# Altium footprint library 734120110.PcbLib: 1 footprints
Each footprint in its own frame and in the unit in brackets; x right, y up, seen from the top. Pads: shape width x height; smd on the part's side, far side on the other; paste and mask are expansions set on the pad; w line width, h text height; cw(c..) or ccw(c..) is an arc to the next point about the centre after c.
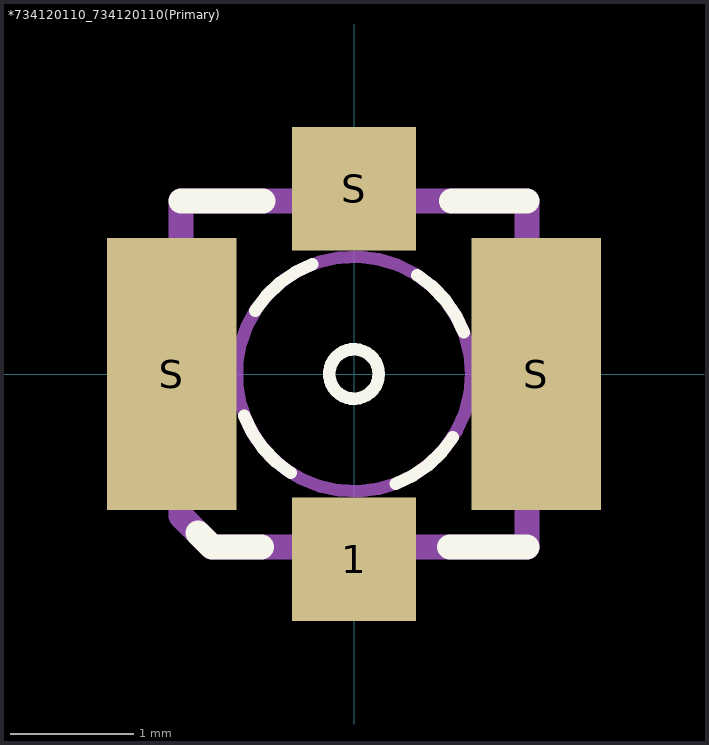
[diagram p0: the footprint, top view; thin cyan lines are the x and y axes]

## *734120110_734120110(Primary) [mm]
pads (4):
  rect 1x1 smd: 1(0,-1.5) S(0,1.5)
  rect 1.05x2.2 smd: S(-1.475,0) S(1.475,0)
Top Overlay:
  circle w0.102: c0,0 r0.2
  lines w0.102: -0.888,-0.336 ccw(c-0.026,-0.023) -0.512,-0.8 ; -0.8,0.512 cw(c-0.023,0.026) -0.336,0.888 ; 0.336,-0.888 ccw(c0.023,-0.026) 0.8,-0.512 ; 0.512,0.8 cw(c0.026,0.023) 0.888,0.336
  lines w0.203: -1.4,1.4 -0.737,1.4 ; -1.262,-1.288 -1.15,-1.4 -0.75,-1.4 ; 0.775,-1.4 1.4,-1.4 ; 0.787,1.4 1.4,1.4
Mechanical 4:
  circle w0.102: c0,0 r0.95
  circle w0.102: c0,0 r0.95
  region: -0.3,-1.5 0.3,-1.5 0.3,-1.8 -0.3,-1.8
  region: -0.3,1.8 0.3,1.8 0.3,1.5 -0.3,1.5
  region: 1.35,0.9 1.8,0.9 1.8,-0.9 1.35,-0.9
  region: -1.8,0.9 -1.35,0.9 -1.35,-0.9 -1.8,-0.9
  region: -0.3,-1.5 0.3,-1.5 0.3,-1.8 -0.3,-1.8
  region: -0.3,1.8 0.3,1.8 0.3,1.5 -0.3,1.5
  region: 1.35,0.9 1.8,0.9 1.8,-0.9 1.35,-0.9
  region: -1.8,0.9 -1.35,0.9 -1.35,-0.9 -1.8,-0.9
  lines w0.203: -1.4,-1.15 -1.4,1.4 ; -1.4,-1.15 -1.15,-1.4 ; -1.4,-1.15 -1.4,1.4 ; -1.4,-1.15 -1.15,-1.4 ; -1.4,1.4 1.4,1.4 ; -1.4,1.4 1.4,1.4 ; -1.15,-1.4 1.4,-1.4 ; -1.15,-1.4 1.4,-1.4 ; 1.4,-1.4 1.4,1.4 ; 1.4,-1.4 1.4,1.4